# EAGLE library part CON-TBUS (library electronic-labs)
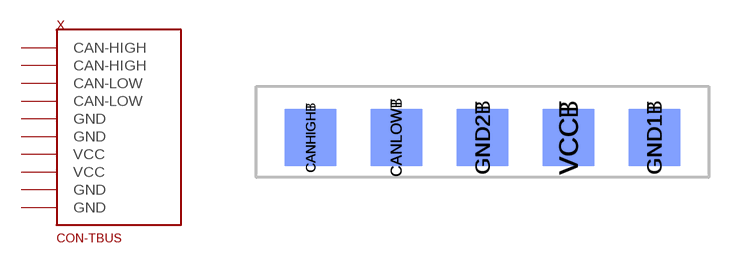
[diagram p11: symbol with the pads of CON-TBUS; footprint CON-TBUS]

Designator prefix X

## CON-TBUS  [CON-TBUS]
CANHIGHB  CAN-HIGH
CANHIGHT  CAN-HIGH
CANLOWB  CAN-LOW
CANLOWT  CAN-LOW
GND1B  GND
GND1T  GND
GND2B  GND
GND2T  GND
VCCB  VCC
VCCT  VCC

## Footprint CON-TBUS (pad centres in mm)
smd 2.286 x 2.54 bottom: CANHIGHB -7.62,0; CANLOWB -3.81,0; GND1B 7.62,0; GND2B 0,0; VCCB 3.81,0
smd 2.286 x 2.54: CANHIGHT -7.62,0; CANLOWT -3.81,0; GND1T 7.62,0; GND2T 0,0; VCCT 3.81,0